# Altium footprint library STM32F412CGU6_ESP32-C3_board.PcbLib: 10 footprints
Each footprint in its own frame and in the unit in brackets; x right, y up, seen from the top. Pads: shape width x height; smd on the part's side, far side on the other; paste and mask are expansions set on the pad; w line width, h text height; cw(c..) or ccw(c..) is an arc to the next point about the centre after c.
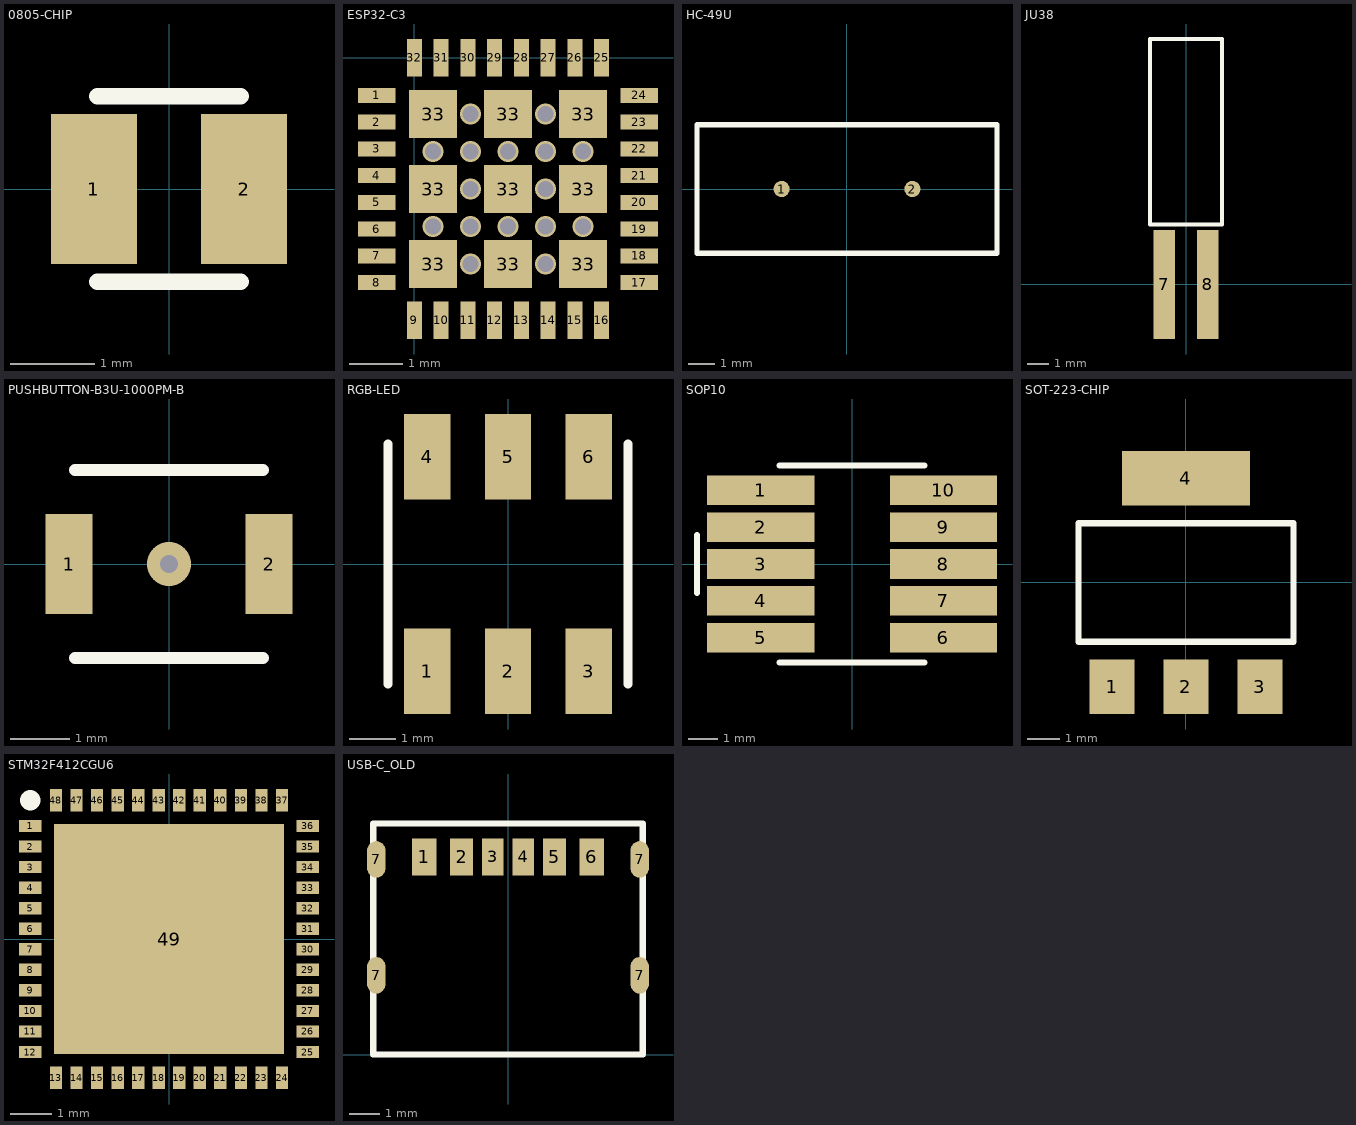
[diagram p0: the footprints below, top view; thin cyan lines are the x and y axes]

## 0805-CHIP [mm]
pads (2):
  rect 1.02x1.78 smd: 1(-0.89,0) 2(0.89,0)
Top Overlay:
  lines w0.2: -0.85,-1.1 0.85,-1.1 ; -0.85,1.1 0.85,1.1

## ESP32-C3 [mm]
pads (41):
  rect 0.7x0.28 smd: 1(-0.7,-0.7) 2(-0.7,-1.2) 3(-0.7,-1.7) 4(-0.7,-2.2) 5(-0.7,-2.7) 6(-0.7,-3.2) 7(-0.7,-3.7) 8(-0.7,-4.2) 17(4.2,-4.2) 18(4.2,-3.7) 19(4.2,-3.2) 20(4.2,-2.7) 21(4.2,-2.2) 22(4.2,-1.7) 23(4.2,-1.2) 24(4.2,-0.7)
  rect 0.28x0.7 smd: 9(0,-4.9) 10(0.5,-4.9) 11(1,-4.9) 12(1.5,-4.9) 13(2,-4.9) 14(2.5,-4.9) 15(3,-4.9) 16(3.5,-4.9) 25(3.5,0) 26(3,0) 27(2.5,0) 28(2,0) 29(1.5,0) 30(1,0) 31(0.5,0) 32(0,0)
  rect 0.9x0.9 smd: 33(0.35,-3.85) 33(0.35,-2.45) 33(0.35,-1.05) 33(1.75,-3.85) 33(1.75,-2.45) 33(1.75,-1.05) 33(3.15,-3.85) 33(3.15,-2.45) 33(3.15,-1.05)
via 0.35,-1.75 diameter 0.4 hole 0.3
via 1.05,-1.05 diameter 0.4 hole 0.3
via 1.05,-1.75 diameter 0.4 hole 0.3
via 1.75,-1.75 diameter 0.4 hole 0.3
via 2.45,-1.05 diameter 0.4 hole 0.3
via 2.45,-1.75 diameter 0.4 hole 0.3
via 3.15,-1.75 diameter 0.4 hole 0.3
via 0.35,-3.15 diameter 0.4 hole 0.3
via 1.05,-2.45 diameter 0.4 hole 0.3
via 1.05,-3.15 diameter 0.4 hole 0.3
via 1.75,-3.15 diameter 0.4 hole 0.3
via 2.45,-2.45 diameter 0.4 hole 0.3
via 2.45,-3.15 diameter 0.4 hole 0.3
via 3.15,-3.15 diameter 0.4 hole 0.3
via 1.05,-3.85 diameter 0.4 hole 0.3
via 2.45,-3.85 diameter 0.4 hole 0.3

## HC-49U [mm]
pads (2):
  round 0.6 all layers, no hole: 1(-2.44,0) 2(2.44,0)
Top Overlay:
  lines w0.2: -5.6,-2.4 5.6,-2.4 5.6,2.4 -5.6,2.4 -5.6,-2.4

## JU38 [mm]
pads (2):
  rect 1x5 smd: 7(-1,0) 8(1,0)
Top Overlay:
  lines w0.2: -1.65,2.75 1.65,2.75 1.65,11.25 -1.65,11.25 -1.65,2.75

## PUSHBUTTON-B3U-1000PM-B [mm]
pads (2):
  rect 0.8x1.7 smd: 1(-1.7,0) 2(1.7,0)
via 0,0 diameter 0.75 hole 0.3
Top Overlay:
  lines w0.2: -1.6,-1.6 1.6,-1.6 ; -1.6,1.6 1.6,1.6

## RGB-LED [mm]
pads (6):
  rect 1x1.85 smd: 1(-1.75,-2.325) 2(0,-2.325) 3(1.75,-2.325) 4(-1.75,2.325) 5(0,2.325) 6(1.75,2.325)
Top Overlay:
  lines w0.2: -2.6,-2.6 -2.6,2.6 ; 2.6,-2.6 2.6,2.6

## SOP10 [mm]
pads (10):
  rect 3.7x1.02 smd: 1(-3.15,2.54) 2(-3.15,1.27) 3(-3.15,0) 4(-3.15,-1.27) 5(-3.15,-2.54) 6(3.15,-2.54) 7(3.15,-1.27) 8(3.15,0) 9(3.15,1.27) 10(3.15,2.54)
Top Overlay:
  lines w0.2: -5.35,-1 -5.35,1 ; -2.5,-3.4 2.5,-3.4 ; -2.5,3.4 2.5,3.4

## SOT-223-CHIP [mm]
pads (4):
  rect 1.4x1.7 smd: 1(-2.3,-3.25) 2(0,-3.25) 3(2.3,-3.25)
  rect 4x1.7 smd: 4(0,3.25)
Top Overlay:
  lines w0.2: -3.35,-1.85 3.35,-1.85 3.35,1.85 -3.35,1.85 -3.35,-1.85

## STM32F412CGU6 [mm]
pads (49):
  rect 0.55x0.3 smd: 1(-3.375,2.75) 2(-3.375,2.25) 3(-3.375,1.75) 4(-3.375,1.25) 5(-3.375,0.75) 6(-3.375,0.25) 7(-3.375,-0.25) 8(-3.375,-0.75) 9(-3.375,-1.25) 10(-3.375,-1.75) 11(-3.375,-2.25) 12(-3.375,-2.75) 25(3.375,-2.75) 26(3.375,-2.25) 27(3.375,-1.75) 28(3.375,-1.25) 29(3.375,-0.75) 30(3.375,-0.25) 31(3.375,0.25) 32(3.375,0.75) 33(3.375,1.25) 34(3.375,1.75) 35(3.375,2.25) 36(3.375,2.75)
  rect 0.3x0.55 smd: 13(-2.75,-3.375) 14(-2.25,-3.375) 15(-1.75,-3.375) 16(-1.25,-3.375) 17(-0.75,-3.375) 18(-0.25,-3.375) 19(0.25,-3.375) 20(0.75,-3.375) 21(1.25,-3.375) 22(1.75,-3.375) 23(2.25,-3.375) 24(2.75,-3.375) 37(2.75,3.375) 38(2.25,3.375) 39(1.75,3.375) 40(1.25,3.375) 41(0.75,3.375) 42(0.25,3.375) 43(-0.25,3.375) 44(-0.75,3.375) 45(-1.25,3.375) 46(-1.75,3.375) 47(-2.25,3.375) 48(-2.75,3.375)
  rect 5.6x5.6 smd: 49(0,0)
Top Overlay:
  lines w0.5: -3.375,3.375 -3.375,3.375

## USB-C_OLD [mm]
pads (10):
  rect 0.8x1.2 smd: 1(-2.75,6.48) 6(2.75,6.48)
  rect 0.76x1.2 smd: 2(-1.52,6.48) 5(1.52,6.48)
  rect 0.7x1.2 smd: 3(-0.5,6.48) 4(0.5,6.48)
  oval 0.6x1.2 all layers, no hole: 7(-4.32,2.6) 7(-4.32,6.4) 7(4.32,2.6) 7(4.32,6.4)
Top Overlay:
  lines w0.2: -4.42,0 4.42,0 4.42,7.58 -4.42,7.58 -4.42,0